# Altium integrated library Device.IntLib: 7 symbols
Pins are listed as number, name and electrical type; pins without a type are passive.

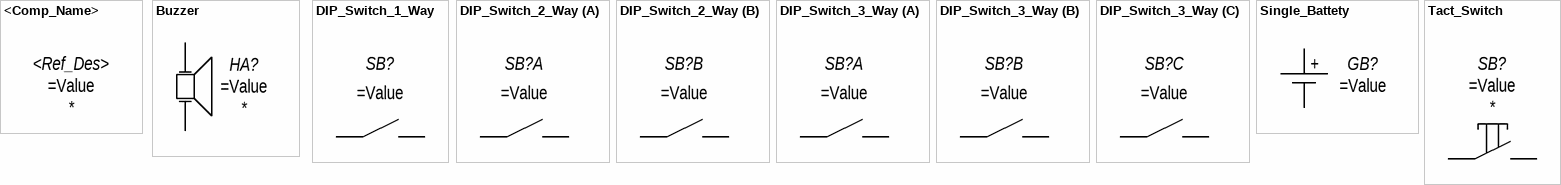
[diagram p0: symbols <Comp_Name> to Tact_Switch]

## <Comp_Name>
designator <Ref_Des>
<element_assignmen>; Manufacturer: *; HelpURL: *; Value: =Value

## Buzzer
designator HA?
<element_assignmen>; Manufacturer: *; HelpURL: *; Value: =Value
footprint HC090X (2 pins, Pitch 4mm)
pins: 1, 2

## DIP_Switch_1_Way
designator SB?  (value not drawn)
DIP Switch 1 Way; Manufacturer: *; HelpURL: *; Value: =Value
footprint DS1040-01RN (Connfly DIP Switch, 1-Way, Pitch 7.62mm)
pins: 1, 2

## DIP_Switch_2_Way
designator SB?  (value not drawn)
DIP Switch 2 Way; Manufacturer: *; HelpURL: *; Value: =Value
footprint DS1040-02RN (Connfly DIP Switch, 2-Way, Pitch 7.62mm)
part A pins: 1, 2
part B pins: 3, 4

## DIP_Switch_3_Way
designator SB?  (value not drawn)
DIP Switch 3 Way; Manufacturer: *; HelpURL: *; Value: =Value
footprint DS1040-03RN (Connfly DIP Switch, 3-Way, Pitch 7.62mm)
part A pins: 1, 2
part B pins: 3, 4
part C pins: 5, 6

## Single_Battety
designator GB?  (value not drawn)
Holder for single battery; Manufacturer: *; HelpURL: *; Value: =Value
footprint BS-02D-xx-x (BS-02D Package, 2032 battery holder, site: www.rtc.ru)
footprint CH7410-2032LF (CH7410, 2032 battery holder, SMT)
footprint CR1220_HOLDER
footprint L-KLS5 (AA Batterry Holder)
pins: 1, 2
text: +

## Tact_Switch
designator SB?
<element_assignmen>; Manufacturer: *; HelpURL: *; Value: =Value
footprint KLS7-TS6601 (4 pin Tact Switch, Body 6x6mm); pin to pad 2>3
pins: 1, 2